# Altium footprint library UK_Library_PCB.PcbLib: 52 footprints (part 1 of 4)
Each footprint in its own frame and in the unit in brackets; x right, y up, seen from the top. Pads: shape width x height; smd on the part's side, far side on the other; paste and mask are expansions set on the pad; w line width, h text height; cw(c..) or ccw(c..) is an arc to the next point about the centre after c.
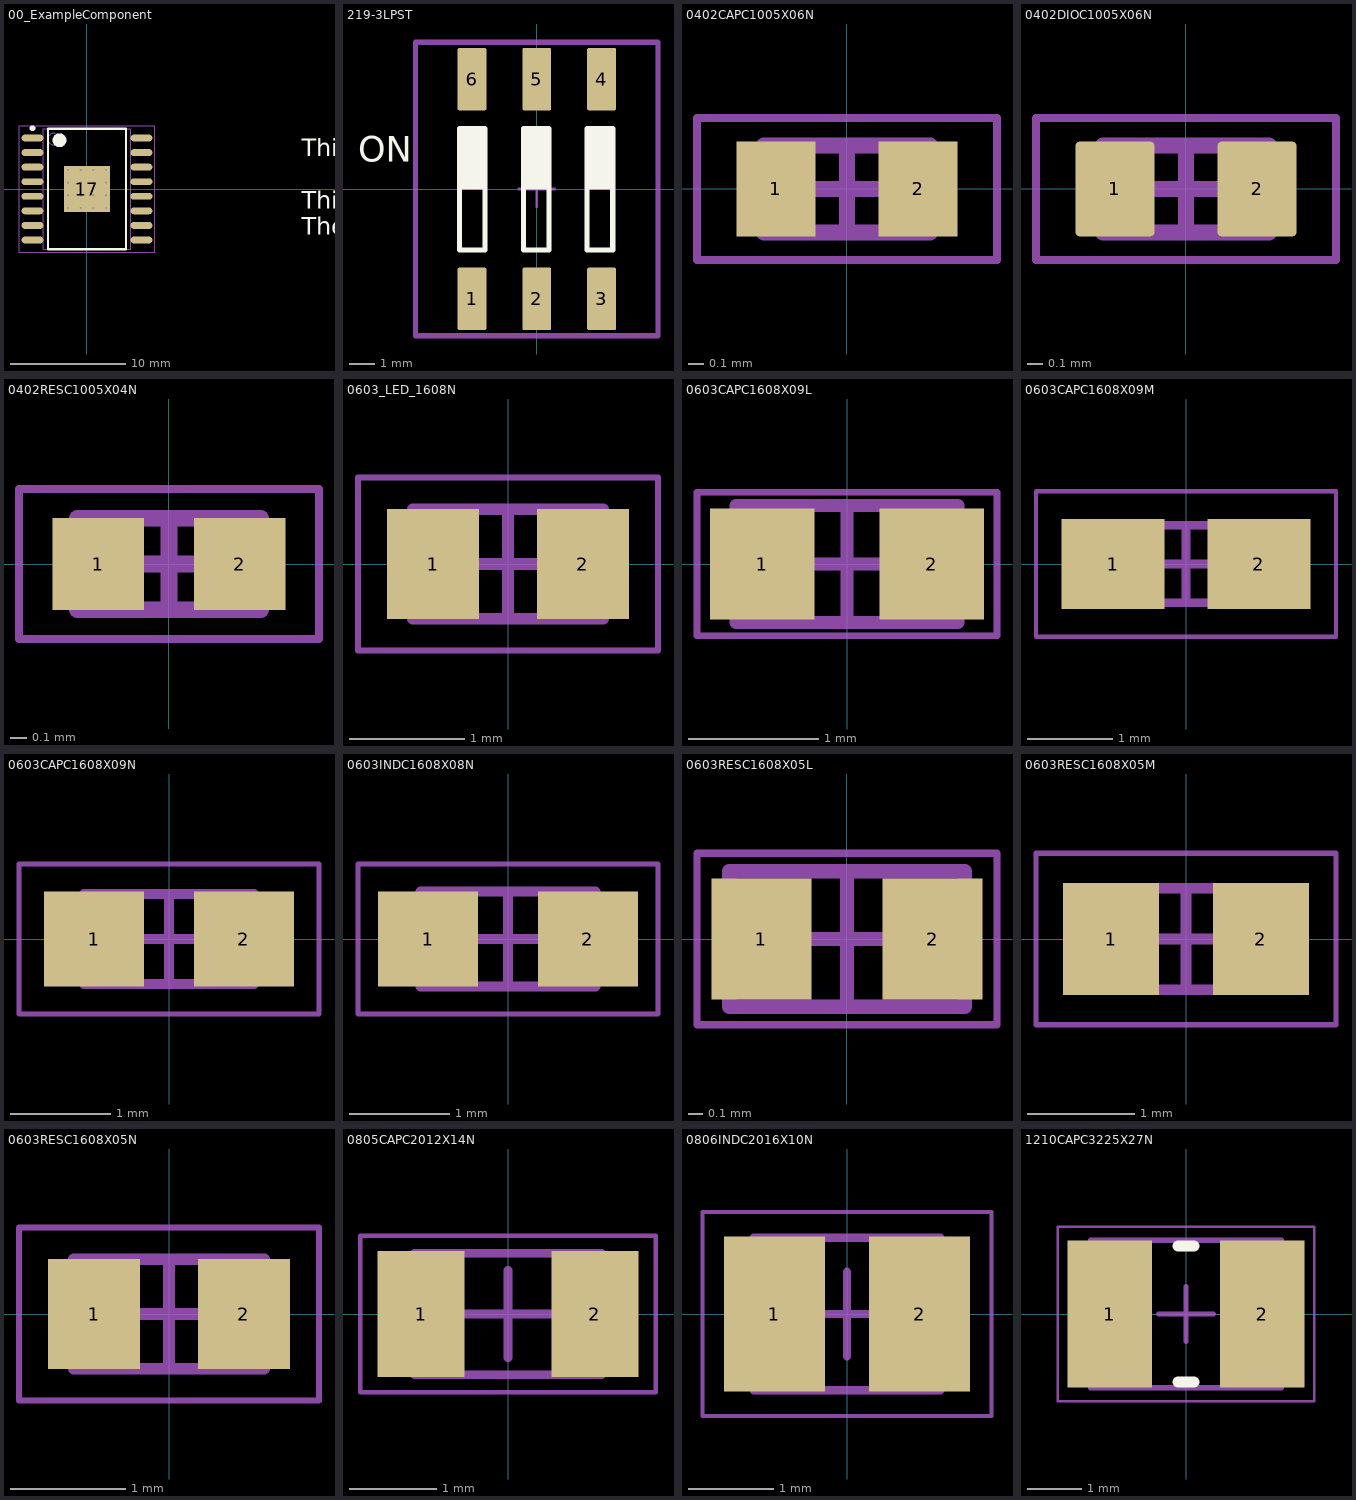
[diagram p0: the footprints below, top view; thin cyan lines are the x and y axes]

## 00_ExampleComponent [mm] "(SOIC127P1030X265_HS-17N) SOIC, 16-Leads, Body 10,30x7,50mm, Pitch 1,27mm, Thermal Pad 4,00x4,00mm, IPC Medium Density / This is designed for creating an example component for the librarya and explaining the layers."
height 2.65
pads (17):
  oval 1.9x0.6 smd: 1(-4.75,4.445) 2(-4.75,3.175) 3(-4.75,1.905) 4(-4.75,0.635) 5(-4.75,-0.635) 6(-4.75,-1.905) 7(-4.75,-3.175) 8(-4.75,-4.445) 9(4.75,-4.445) 10(4.75,-3.175) 11(4.75,-1.905) 12(4.75,-0.635) 13(4.75,0.635) 14(4.75,1.905) 15(4.75,3.175) 16(4.75,4.445)
  rect 4x4 smd: 17(0,0)
via -1.65,1.65 diameter 0.5 hole 0.2
via -0.55,1.65 diameter 0.5 hole 0.2
via 0.55,1.65 diameter 0.5 hole 0.2
via 1.65,1.65 diameter 0.5 hole 0.2
via -1.65,0.55 diameter 0.5 hole 0.2
via -0.55,0.55 diameter 0.5 hole 0.2
via 0.55,0.55 diameter 0.5 hole 0.2
via 1.65,0.55 diameter 0.5 hole 0.2
via -1.65,-0.55 diameter 0.5 hole 0.2
via -0.55,-0.55 diameter 0.5 hole 0.2
via 0.55,-0.55 diameter 0.5 hole 0.2
via 1.65,-0.55 diameter 0.5 hole 0.2
via -1.65,-1.65 diameter 0.5 hole 0.2
via -0.55,-1.65 diameter 0.5 hole 0.2
via 0.55,-1.65 diameter 0.5 hole 0.2
via 1.65,-1.65 diameter 0.5 hole 0.2
Top Layer:
  text "This is top layer." at 7.747,-4.064 h1.52
Top Overlay:
  circle w0.25: c-4.75,5.295 r0.125
  circle w0.6: c-2.4,4.25 r0.3
  lines w0.2: -3.4,-5.25 -3.4,5.25 3.4,5.25 3.4,-5.25 -3.4,-5.25
  text "This is silkscreen layer. You know it. /  / This component designed by using the IPC Footprint wizard. / The wizard follows IPC7352." at 18.7,-4 h1.52
Top Component Center:
  lines w0.254: -1.1,0 0,0 ; 0,-1.1 0,0 ; 0,1.1 0,0 ; 1.1,0 0,0
  text "This is component center layer. / It is used by the pick and place machines.  / Important for correct placement" at -33.3,-9.7 h1.52
Top Assembly:
  circle w0.1: c-2.9,4.35 r0.5
  lines w0.1: -3.8,-5.25 -3.8,5.25 3.8,5.25 3.8,-5.25 -3.8,-5.25
  text ".Designator" at -3.246,-0.538 h1.52
  text "This is assembly layer. / Assembly info is provided for the manufacturer." at -14.1,9.5 h1.52
Top Designator:
  text ".Designator" at 25.564,-5.193 h1.52
Top 3D Body:
  text "This is 3D Body layer. / It is clear what it does." at 14.6,-16 h1.52
Top Courtyard:
  lines w0.05: -5.925,-5.5 -5.925,5.5 5.925,5.5 5.925,-5.5 -5.925,-5.5
  lines w0.1: -0.5,0 0.5,0 ; 0,-0.5 0,0.5
  text "This is top courtyard. / Sets the distance between other components." at -5.5,-27.3 h1.52
3D body "SOIC127P1030X265_HS-17N.step": height 2.65, standoff 0, extent -5.15,-5.25 5.15,5.25

## 219-3LPST [mm]
pads (6):
  rrect10% 1.13x2.44 smd mask+0: 1(-2.54,-4.305) 2(0,-4.305) 3(2.54,-4.305) 4(2.54,4.305) 5(0,4.305) 6(-2.54,4.305)
Top Overlay:
  region: -3.025,2.365 -2.025,2.365 -2.025,-0.01 -3.025,-0.01
  region: -0.525,2.365 0.475,2.365 0.475,-0.01 -0.525,-0.01
  region: 1.975,2.365 2.975,2.365 2.975,-0.01 1.975,-0.01
  lines w0.2: -3.025,-2.385 -3.025,2.365 -2.025,2.365 -2.025,-2.385 -3.025,-2.385 ; -0.525,-2.385 -0.525,2.365 0.475,2.365 0.475,-2.385 -0.525,-2.385 ; 1.975,-2.385 1.975,2.365 2.975,2.365 2.975,-2.385 1.975,-2.385
  text "ON" at -7.008,1.075 h1
Top Component Center:
  lines w0.1: -0.7,0 0.7,0 ; 0,-0.7 0,0.7
Top Assembly:
  lines w0.2: -4.75,-5.75 4.75,-5.75 4.75,-5.25 4.75,5.75 -4.75,5.75 -4.75,-5.75
Top Designator:
  text ".Designator" at -8.697,-0.508 h1.52
Top Courtyard:
  lines w0.05: -4.75,-5.75 4.75,-5.75 4.75,-5.25 4.75,5.75 -4.75,5.75 -4.75,-5.75
3D body "219-3poles.stp": height 4.31, standoff 0.01, extent -4.545,-4.955 4.545,4.955

## 0402CAPC1005X06N [mm] "Chip Capacitor, 2-Leads, Body 1,00x0,50mm, IPC Medium Density"
height 0.55
pads (2):
  rect 0.5x0.6 smd mask+0.05: 1(-0.45,0) 2(0.45,0)
Top Component Center:
  lines w0.1: -0.275,0 0.275,0 ; 0,-0.275 0,0.275
Top Assembly:
  lines w0.1: -0.525,-0.275 -0.525,0.275 0.525,0.275 0.525,-0.275 -0.525,-0.275
Top Designator:
  text ".Designator" at -7.618,-0.508 h1.52
Top Courtyard:
  lines w0.05: -0.95,-0.45 -0.95,0.45 0.95,0.45 0.95,-0.45 -0.95,-0.45
3D body "0402CAPC1005X06N.step": height 0.55, standoff 0, extent -0.525,-0.275 0.525,0.275

## 0402DIOC1005X06N [mm] "Chip Diode 2-Leads, Body 1,00x0,50mm, IPC Medium Density"
height 0.55
pads (2):
  rrect10% 0.5x0.6 smd mask+0.05: 1(-0.45,0) 2(0.45,0)
Top Component Center:
  lines w0.1: -0.275,0 0.275,0 ; 0,-0.275 0,0.275
Top Assembly:
  lines w0.1: -0.525,-0.275 -0.525,0.275 0.525,0.275 0.525,-0.275 -0.525,-0.275
Top Designator:
  text ".Designator" at -7.618,-0.508 h1.52
Top Courtyard:
  lines w0.05: -0.95,-0.45 -0.95,0.45 0.95,0.45 0.95,-0.45 -0.95,-0.45
3D body "B72590D0050H160.STEP": height 0.55, standoff 0, extent -0.5,-0.25 0.5,0.25

## 0402RESC1005X04N [mm] "Chip Resistor, 2-Leads, Body 1,00x0,50mm, IPC Medium Density"
height 0.35
pads (2):
  rect 0.55x0.55 smd mask+0.05: 1(-0.425,0) 2(0.425,0)
Top Component Center:
  lines w0.1: -0.275,0 0.275,0 ; 0,-0.275 0,0.275
Top Assembly:
  lines w0.1: -0.55,-0.275 0.55,-0.275 0.55,0.275 -0.55,0.275 -0.55,-0.275
Top Designator:
  text ".Designator" at -7.618,-0.508 h1.52
Top Courtyard:
  lines w0.05: -0.9,-0.45 0.9,-0.45 0.9,0.45 -0.9,0.45 -0.9,-0.45
3D body "0402RESC1005X04N.step": height 0.35, standoff 0, extent -0.55,-0.275 0.55,0.275

## 0603_LED_1608N [mm] "LED, 2-Leads, Body 1,58x0,85mm, IPC Medium Density"
height 0.5
pads (2):
  rect 0.8x0.95 smd mask+0.05: 1(-0.65,0) 2(0.65,0)
Top Component Center:
  lines w0.1: -0.475,0 0.475,0 ; 0,-0.475 0,0.475
Top Assembly:
  lines w0.1: -0.825,-0.475 -0.825,0.475 0.825,0.475 0.825,-0.475 -0.825,-0.475
Top Designator:
  text ".Designator" at -7.618,-0.508 h1.52
Top Courtyard:
  lines w0.05: -1.3,-0.75 -1.3,0.75 1.3,0.75 1.3,-0.75 -1.3,-0.75
3D body "LTST-C191TGKT.STEP": height 0.66, standoff 0.01, extent -0.8,-0.4 0.8,0.4

## 0603CAPC1608X09L [mm] "Chip Capacitor, 2-Leads, Body 1,60x0,80mm, IPC High Density"
height 0.9
pads (2):
  rect 0.8x0.85 smd: 1(-0.65,0) 2(0.65,0)
Top Component Center:
  lines w0.1: -0.45,0 0.45,0 ; 0,-0.45 0,0.45
Top Assembly:
  lines w0.1: -0.85,-0.45 0.85,-0.45 0.85,0.45 -0.85,0.45 -0.85,-0.45
Top Designator:
  text ".Designator" at -7.618,-0.508 h1.52
Top Courtyard:
  lines w0.05: -1.15,-0.55 1.15,-0.55 1.15,0.55 -1.15,0.55 -1.15,-0.55
3D body "0603CAPC1608X09L.step": height 0.9, standoff 0, extent -0.85,-0.45 0.85,0.45

## 0603CAPC1608X09M [mm] "Chip Capacitor, 2-Leads, Body 1,60x0,80mm, IPC Low Density"
height 0.9
pads (2):
  rect 1.2x1.05 smd mask+0.05: 1(-0.85,0) 2(0.85,0)
Top Component Center:
  lines w0.1: -0.45,0 0.45,0 ; 0,-0.45 0,0.45
Top Assembly:
  lines w0.1: -0.85,-0.45 0.85,-0.45 0.85,0.45 -0.85,0.45 -0.85,-0.45
Top Designator:
  text ".Designator" at -7.618,-0.508 h1.52
Top Courtyard:
  lines w0.05: -1.75,-0.85 1.75,-0.85 1.75,0.85 -1.75,0.85 -1.75,-0.85
3D body "0603CAPC1608X09M.step": height 0.9, standoff 0, extent -0.85,-0.45 0.85,0.45

## 0603CAPC1608X09N [mm] "Chip Capacitor, 2-Leads, Body 1,60x0,80mm, IPC Medium Density"
height 0.9
pads (2):
  rect 1x0.95 smd mask+0.05: 1(-0.75,0) 2(0.75,0)
Top Component Center:
  lines w0.1: -0.45,0 0.45,0 ; 0,-0.45 0,0.45
Top Assembly:
  lines w0.1: -0.85,-0.45 -0.85,0.45 0.85,0.45 0.85,-0.45 -0.85,-0.45
Top Designator:
  text ".Designator" at -7.618,-0.508 h1.52
Top Courtyard:
  lines w0.05: -1.5,-0.75 -1.5,0.75 1.5,0.75 1.5,-0.75 -1.5,-0.75
3D body "0603CAPC1608X09N.step": height 0.9, standoff 0, extent -0.85,-0.45 0.85,0.45

## 0603INDC1608X08N [mm] "Chip Inductor, 2-Leads, Body 1,60x0,80mm, IPC Medium Density"
height 0.75
pads (2):
  rect 1x0.95 smd mask+0.05: 1(-0.8,0) 2(0.8,0)
Top Component Center:
  lines w0.1: -0.475,0 0.475,0 ; 0,-0.475 0,0.475
Top Assembly:
  lines w0.1: -0.875,-0.475 0.875,-0.475 0.875,0.475 -0.875,0.475 -0.875,-0.475
Top Designator:
  text ".Designator" at -7.618,-0.508 h1.52
Top Courtyard:
  lines w0.05: -1.5,-0.75 1.5,-0.75 1.5,0.75 -1.5,0.75 -1.5,-0.75
3D body "0805INDC1608X08N.step": height 0.75, standoff 0, extent -0.875,-0.475 0.875,0.475

## 0603RESC1608X05L [mm] "Chip Resistor, 2-Leads, Body 1,58x0,85mm, IPC High Density"
height 0.5
pads (2):
  rect 0.7x0.85 smd mask+0.05: 1(-0.6,0) 2(0.6,0)
Top Component Center:
  lines w0.1: -0.475,0 0.475,0 ; 0,-0.475 0,0.475
Top Assembly:
  lines w0.1: -0.825,-0.475 -0.825,0.475 0.825,0.475 0.825,-0.475 -0.825,-0.475
Top Designator:
  text ".Designator" at -7.618,-0.508 h1.52
Top Courtyard:
  lines w0.05: -1.05,-0.6 -1.05,0.6 1.05,0.6 1.05,-0.6 -1.05,-0.6
3D body "RESC1608X05L(0603)_L.step": height 0.5, standoff 0, extent -0.825,-0.475 0.825,0.475

## 0603RESC1608X05M [mm] "Chip Resistor, 2-Leads, Body 1,58x0,85mm, IPC Low Density"
height 0.5
pads (2):
  rect 0.9x1.05 smd mask+0.05: 1(-0.7,0) 2(0.7,0)
Top Component Center:
  lines w0.1: -0.475,0 0.475,0 ; 0,-0.475 0,0.475
Top Assembly:
  lines w0.1: -0.825,-0.475 0.825,-0.475 0.825,0.475 -0.825,0.475 -0.825,-0.475
Top Designator:
  text ".Designator" at -7.618,-0.508 h1.52
Top Courtyard:
  lines w0.05: -1.4,-0.8 1.4,-0.8 1.4,0.8 -1.4,0.8 -1.4,-0.8
3D body "RESC1608X05M(0603).step": height 0.5, standoff 0, extent -0.825,-0.475 0.825,0.475

## 0603RESC1608X05N [mm] "Chip Resistor, 2-Leads, Body 1,58x0,85mm, IPC Medium Density"
height 0.5
pads (2):
  rect 0.8x0.95 smd mask+0.05: 1(-0.65,0) 2(0.65,0)
Top Component Center:
  lines w0.1: -0.475,0 0.475,0 ; 0,-0.475 0,0.475
Top Assembly:
  lines w0.1: -0.825,-0.475 0.825,-0.475 0.825,0.475 -0.825,0.475 -0.825,-0.475
Top Designator:
  text ".Designator" at -7.618,-0.508 h1.52
Top Courtyard:
  lines w0.05: -1.3,-0.75 1.3,-0.75 1.3,0.75 -1.3,0.75 -1.3,-0.75
3D body "RESC1608MX05N(0603IMP)_M.step": height 0.5, standoff 0, extent -0.825,-0.475 0.825,0.475

## 0805CAPC2012X14N [mm] "Chip Capacitor, 2-Leads, Body 2,00x1,25mm, IPC Medium Density"
height 1.4
pads (2):
  rect 1x1.45 smd mask+0.05: 1(-1,0) 2(1,0)
Top Component Center:
  lines w0.1: -0.5,0 0.5,0 ; 0,-0.5 0,0.5
Bottom Assembly:
  lines w0.1: -1.075,-0.7 -1.075,0.7 1.075,0.7 1.075,-0.7 -1.075,-0.7
Top Designator:
  text ".Designator" at -7.618,-0.508 h1.52
Top Courtyard:
  lines w0.05: -1.7,-0.9 -1.7,0.9 1.7,0.9 1.7,-0.9 -1.7,-0.9
3D body "CAPC2012X14N.step": height 1.4, standoff 0, extent -1.075,-0.7 1.075,0.7

## 0806INDC2016X10N [mm] "Chip Inductor, 2-Leads, Body 2,00x1,60mm, IPC Medium Density"
height 1
pads (2):
  rect 1.19x1.82 smd mask+0.05: 1(-0.855,0) 2(0.855,0)
Top Component Center:
  lines w0.1: -0.5,0 0.5,0 ; 0,-0.5 0,0.5
Top Assembly:
  lines w0.1: -1.1,-0.9 -1.1,0.9 1.1,0.9 1.1,-0.9 -1.1,-0.9
Top Designator:
  text ".Designator" at -7.618,-0.508 h1.52
Top Courtyard:
  lines w0.05: -1.7,-1.2 -1.7,1.2 1.7,1.2 1.7,-1.2 -1.7,-1.2
3D body "0806INDC2016X10N.step": height 1, standoff 0, extent -1.1,-0.9 1.1,0.9

## 1210CAPC3225X27N [mm] "Chip Capacitor, 2-Leads, Body 3,20x2,50mm, IPC Medium Density"
height 2.7
pads (2):
  rect 1.55x2.7 smd: 1(-1.4,0) 2(1.4,0)
Top Overlay:
  lines w0.2: -0.15,-1.25 0.15,-1.25 ; -0.15,1.25 0.15,1.25
Top Component Center:
  lines w0.1: -0.5,0 0.5,0 ; 0,-0.5 0,0.5
Top Assembly:
  lines w0.1: -1.75,-1.35 -1.75,1.35 1.75,1.35 1.75,-1.35 -1.75,-1.35
Top Designator:
  text ".Designator" at -7.618,-0.508 h1.52
Top Courtyard:
  lines w0.05: -2.35,-1.6 -2.35,1.6 2.35,1.6 2.35,-1.6 -2.35,-1.6
3D body: height 2.7, standoff 0, extent -1.15,-1.35 1.15,1.35
3D body: height 2.7, standoff 0, extent -1.75,-1.35 -1.15,1.35
3D body: height 2.7, standoff 0, extent 1.15,-1.35 1.75,1.35